# Altium integrated library Analog Devices Data Converters Digital-to-Analog Converters.IntLib: 2231 symbols (part 123 of 181)
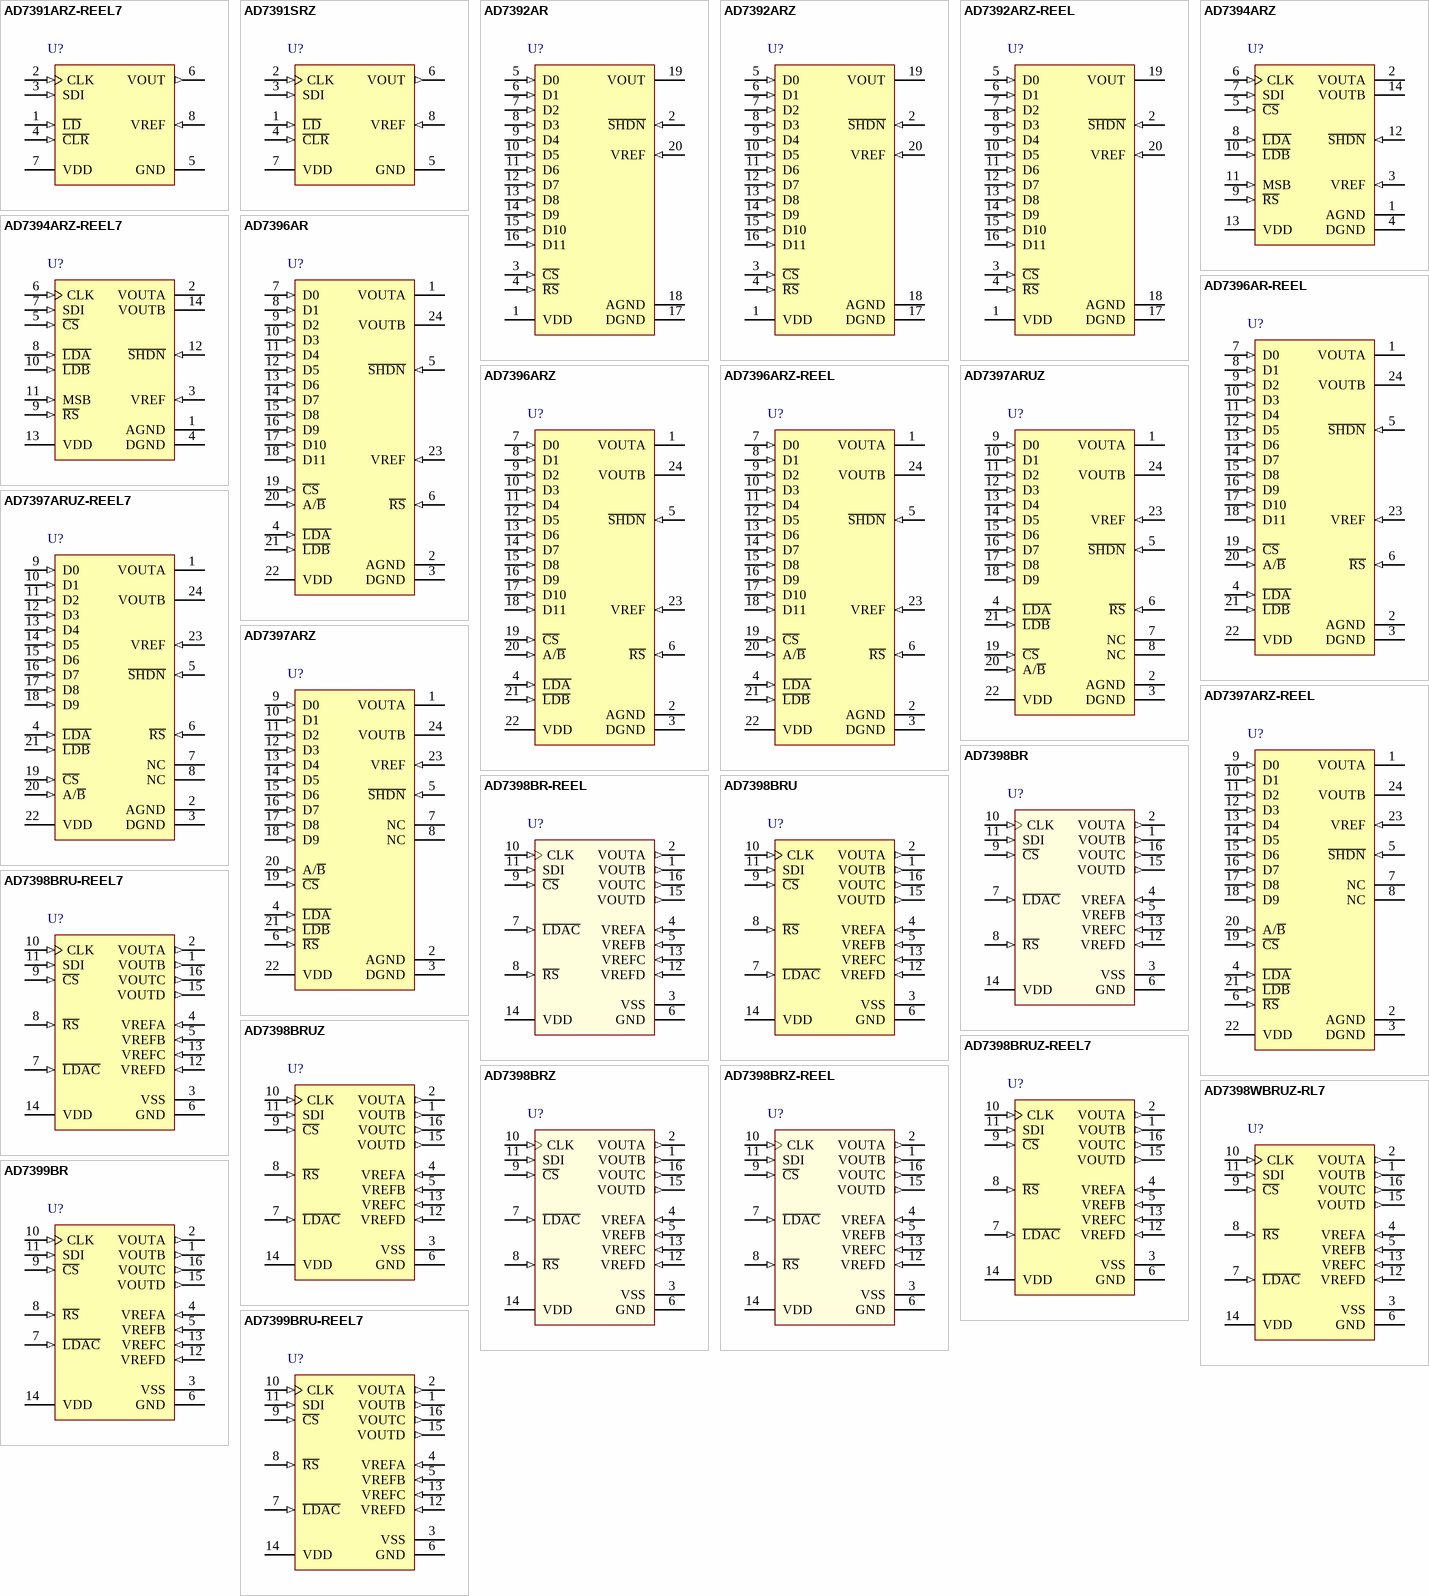
[diagram p236: symbols AD7391ARZ-REEL7 to AD7399BRU-REEL7]

## AD7396ARZ
designator U?
Dual 12-Bit Digital-to-Analog Converter with Parallel Interface, 3 V, -40 to +85 degC, RW-24, Pb-Free, Tube; Generic Part Number: AD7396; Manufacturer: Analog Devices; PartNumber: AD7396ARZ; # DAC Outputs: 2; Max V+: 5.5V; Op Pwr Diss: 1mW; Resolution (Bits): 12; Settling Time: 60µs; Single Supply: Yes; DatasheetVersion: Rev.0; PackageVersion: 060706-A; PackageReference: RW-24; PackageDescription: 24-Lead Standard Small Outline Package [SOIC_W]; Supplier 1: Digi-Key; Supplier Part Number 1: AD7396ARZ-ND; Supplier 2: Newark; Supplier Part Number 2: 59K4769; Supplier 3: Mouser; Supplier Part Number 3: 584-AD7396ARZ; Packing: Tube; RoHS: Y; Mounting Technology: Surface Mount; Code_JEDEC: MS-013-AD; ComponentLink1Description: Manufacturer URL; ComponentLink1URL: http://www.analog.com/en/index.html; ComponentLink2Description: Datasheet; ComponentLink2URL: http://www.analog.com/static/imported-files/data_sheets/AD7396_7397.pdf; ComponentLink3Description: Package Specification; ComponentLink3URL: http://www.analog.com/static/imported-files/packages/33665150946139RW_24.pdf; ComponentLink4Description: Product URL; ComponentLink4URL: http://www.analog.com/en/digital-to-analog-converters/da-converters/ad7396/products/product.html
footprint RW-24_N (SOIC, 24-Leads, Body 15.4x7.5mm, Pitch 1.27mm, IPC Medium Density)
footprint RW-24_L (SOIC, 24-Leads, Body 15.4x7.5mm, Pitch 1.27mm, IPC High Density)
footprint RW-24_M (SOIC, 24-Leads, Body 15.4x7.5mm, Pitch 1.27mm, IPC Low Density)
pins: 1 VOUTA (hiz) "DAC A Voltage Output.", 2 AGND (power) "Analog Ground.", 3 DGND (power) "Digital Ground.", 4 ~{LDA} (in) "Load DAC A Register Strobe. Transfers input register data to the DAC A register. Active low inputs, Level sensitive latch. May be connected together with L\D\B\ to double-buffer load both DAC register simulataneously.", 5 ~{SHDN} (in) "Power Shutdown Active Low Input. DAC register contents are saved as long as power stays on the VDD pin.", 6 ~{RS} (in) "Resets Input and DAC Register to Zero Condition. Asynchronous active low input.", 7 D0 (in) "Twelve Parallel Input Data Bit. D0 = LSB Pin 7, AD7396.", 8 D1 (in) "Twelve Parallel Input Data Bit.", 9 D2 (in) "Twelve Parallel Input Data Bit.", 10 D3 (in) "Twelve Parallel Input Data Bit.", 11 D4 (in) "Twelve Parallel Input Data Bit.", 12 D5 (in) "Twelve Parallel Input Data Bit.", 13 D6 (in) "Twelve Parallel Input Data Bit.", 14 D7 (in) "Twelve Parallel Input Data Bit.", 15 D8 (in) "Twelve Parallel Input Data Bit.", 16 D9 (in) "Twelve Parallel Input Data Bit.", 17 D10 (in) "Twelve Parallel Input Data Bit.", 18 D11 (in) "Twelve Parallel Input Data Bit. D11 = MSB Pin 18, AD7396.", 19 ~{CS} (in) "Chip Select Latch Enable, Active Low.", 20 A/~{B} (in) "DAC Input Register Address Select DACA = 1 or DACB = 0.", 21 ~{LDB} (in) "Load DAC B Register Strobe. Transfers input register data to the DAC B register. Active low inputs, Level sensitive latch. May be connected together with L\D\A\ to double-buffer load both DAC registers simultaneously.", 22 VDD (power) "Positive Power Supply Input. Specified range of operation +2.7 V to +5.5 V.", 23 VREF (in) "DAC Reference Input Pin. Establishes DAC full-scale voltage.", 24 VOUTB (hiz) "DAC B Voltage Output."

## AD7396ARZ-REEL
designator U?
Dual 12-Bit Digital-to-Analog Converter with Parallel Interface, 3 V, -40 to +85 degC, RW-24, Pb-Free, Reel; Generic Part Number: AD7396; Manufacturer: Analog Devices; PartNumber: AD7396ARZ-REEL; # DAC Outputs: 2; Max V+: 5.5V; Op Pwr Diss: 1mW; Resolution (Bits): 12; Settling Time: 60µs; Single Supply: Yes; DatasheetVersion: Rev.0; PackageVersion: 060706-A; PackageReference: RW-24; PackageDescription: 24-Lead Standard Small Outline Package [SOIC_W]; Supplier 1: Digi-Key; Supplier Part Number 1: AD7396ARZ-REEL-ND; Supplier 2: Mouser; Supplier Part Number 2: 584-AD7396ARZ-R; Packing: Reel; RoHS: Y; Mounting Technology: Surface Mount; Code_JEDEC: MS-013-AD; ComponentLink1Description: Manufacturer URL; ComponentLink1URL: http://www.analog.com/en/index.html; ComponentLink2Description: Datasheet; ComponentLink2URL: http://www.analog.com/static/imported-files/data_sheets/AD7396_7397.pdf; ComponentLink3Description: Package Specification; ComponentLink3URL: http://www.analog.com/static/imported-files/packages/33665150946139RW_24.pdf; ComponentLink4Description: Product URL; ComponentLink4URL: http://www.analog.com/en/digital-to-analog-converters/da-converters/ad7396/products/product.html
footprint RW-24_N (SOIC, 24-Leads, Body 15.4x7.5mm, Pitch 1.27mm, IPC Medium Density)
footprint RW-24_L (SOIC, 24-Leads, Body 15.4x7.5mm, Pitch 1.27mm, IPC High Density)
footprint RW-24_M (SOIC, 24-Leads, Body 15.4x7.5mm, Pitch 1.27mm, IPC Low Density)
pins: 1 VOUTA (hiz) "DAC A Voltage Output.", 2 AGND (power) "Analog Ground.", 3 DGND (power) "Digital Ground.", 4 ~{LDA} (in) "Load DAC A Register Strobe. Transfers input register data to the DAC A register. Active low inputs, Level sensitive latch. May be connected together with L\D\B\ to double-buffer load both DAC register simulataneously.", 5 ~{SHDN} (in) "Power Shutdown Active Low Input. DAC register contents are saved as long as power stays on the VDD pin.", 6 ~{RS} (in) "Resets Input and DAC Register to Zero Condition. Asynchronous active low input.", 7 D0 (in) "Twelve Parallel Input Data Bit. D0 = LSB Pin 7, AD7396.", 8 D1 (in) "Twelve Parallel Input Data Bit.", 9 D2 (in) "Twelve Parallel Input Data Bit.", 10 D3 (in) "Twelve Parallel Input Data Bit.", 11 D4 (in) "Twelve Parallel Input Data Bit.", 12 D5 (in) "Twelve Parallel Input Data Bit.", 13 D6 (in) "Twelve Parallel Input Data Bit.", 14 D7 (in) "Twelve Parallel Input Data Bit.", 15 D8 (in) "Twelve Parallel Input Data Bit.", 16 D9 (in) "Twelve Parallel Input Data Bit.", 17 D10 (in) "Twelve Parallel Input Data Bit.", 18 D11 (in) "Twelve Parallel Input Data Bit. D11 = MSB Pin 18, AD7396.", 19 ~{CS} (in) "Chip Select Latch Enable, Active Low.", 20 A/~{B} (in) "DAC Input Register Address Select DACA = 1 or DACB = 0.", 21 ~{LDB} (in) "Load DAC B Register Strobe. Transfers input register data to the DAC B register. Active low inputs, Level sensitive latch. May be connected together with L\D\A\ to double-buffer load both DAC registers simultaneously.", 22 VDD (power) "Positive Power Supply Input. Specified range of operation +2.7 V to +5.5 V.", 23 VREF (in) "DAC Reference Input Pin. Establishes DAC full-scale voltage.", 24 VOUTB (hiz) "DAC B Voltage Output."

## AD7397ARUZ
designator U?
Dual 10-Bit Digital-to-Analog Converter with Parallel Interface, 3 V, -40 to +85 degC, RU-24, Pb-Free, Tube; Generic Part Number: AD7397; Manufacturer: Analog Devices; PartNumber: AD7397ARUZ; # DAC Outputs: 2; Max V+: 5.5V; Op Pwr Diss: 1mW; Resolution (Bits): 10; Settling Time: 60µs; Single Supply: Yes; DatasheetVersion: Rev.0; PackageVersion: 2002; PackageReference: RU-24; PackageDescription: 24-Lead Thin Shrink Small Outline Package [TSSOP]; Supplier 1: Digi-Key; Supplier Part Number 1: AD7397ARUZ-ND; Supplier 2: Mouser; Supplier Part Number 2: 584-AD7397ARUZ; Packing: Tube; RoHS: Y; Mounting Technology: Surface Mount; Code_JEDEC: MO-153-AD; ComponentLink1Description: Manufacturer URL; ComponentLink1URL: http://www.analog.com/en/index.html; ComponentLink2Description: Datasheet; ComponentLink2URL: http://www.analog.com/static/imported-files/data_sheets/AD7396_7397.pdf; ComponentLink3Description: Package Specification; ComponentLink3URL: http://www.analog.com/static/imported-files/packages/380523655245964505593671154107510036154RU24.pdf; ComponentLink4Description: Product URL; ComponentLink4URL: http://www.analog.com/en/digital-to-analog-converters/da-converters/ad7397/products/product.html
footprint RU-24_N (TSOP, 24-Leads, Body 7.8x4.4mm, Pitch 0.65mm, IPC Medium Density)
footprint RU-24_L (TSOP, 24-Leads, Body 7.8x4.4mm, Pitch 0.65mm, IPC High Density)
footprint RU-24_M (TSOP, 24-Leads, Body 7.8x4.4mm, Pitch 0.65mm, IPC Low Density)
pins: 1 VOUTA (hiz) "DAC A Voltage Output.", 2 AGND (power) "Analog Ground.", 3 DGND (power) "Digital Ground.", 4 ~{LDA} (in) "Load DAC A Register Strobe. Transfers input register data to the DAC A register. Active low inputs, Level sensitive latch. May be connected together with L\D\B\ to double-buffer load both DAC registers simultaneously.", 5 ~{SHDN} (in) "Power Shutdown Active Low Input. DAC register contents are saved as long as power stays on the VDD pin.", 6 ~{RS} (in) "Resets Input and DAC Register to Zero Condition. Asynchronous active low input.", 7 NC "No Connect", 8 NC "No Connect", 9 D0 (in) "Ten Parallel Input Data Bits.D0 = LSB", 10 D1 (in) "Ten Parallel Input Data Bits.", 11 D2 (in) "Ten Parallel Input Data Bits.", 12 D3 (in) "Ten Parallel Input Data Bits.", 13 D4 (in) "Ten Parallel Input Data Bits.", 14 D5 (in) "Ten Parallel Input Data Bits.", 15 D6 (in) "Ten Parallel Input Data Bits.", 16 D7 (in) "Ten Parallel Input Data Bits.", 17 D8 (in) "Ten Parallel Input Data Bits.", 18 D9 (in) "Ten Parallel Input Data Bits.D9 = MSB", 19 ~{CS} (in) "Chip Select Latch Enable, Active Low.", 20 A/~{B} (in) "DAC Input Register Address Select DACA = 1 or DACB = 0.", 21 ~{LDB} (in) "Load DAC B Register Strobe. Transfers input register data to the DAC B register. Active low inputs, Level sensitive latch. May be connected together with L\D\A\ to double-buffer load both DAC registers simultaneously.", 22 VDD (power) "Positive Power Supply Input. Specified range of operation +2.7 V to +5.5 V.", 23 VREF (in) "DAC Reference Input Pin. Establishes DAC full-scale voltage.", 24 VOUTB (hiz) "DAC B Voltage Output."

## AD7397ARUZ-REEL7
designator U?
Dual 10-Bit Digital-to-Analog Converter with Parallel Interface, 3 V, -40 to +85 degC, RU-24, Pb-Free, Reel; Generic Part Number: AD7397; Manufacturer: Analog Devices; PartNumber: AD7397ARUZ-REEL7; # DAC Outputs: 2; Max V+: 5.5V; Op Pwr Diss: 1mW; Resolution (Bits): 10; Settling Time: 60µs; Single Supply: Yes; DatasheetVersion: Rev.0; PackageVersion: 2002; PackageReference: RU-24; PackageDescription: 24-Lead Thin Shrink Small Outline Package [TSSOP]; Supplier 1: Digi-Key; Supplier Part Number 1: AD7397ARUZ-REEL7-ND; Supplier 2: Mouser; Supplier Part Number 2: 584-AD7397ARUZ-R7; Packing: Reel; RoHS: Y; Mounting Technology: Surface Mount; Code_JEDEC: MO-153-AD; ComponentLink1Description: Manufacturer URL; ComponentLink1URL: http://www.analog.com/en/index.html; ComponentLink2Description: Datasheet; ComponentLink2URL: http://www.analog.com/static/imported-files/data_sheets/AD7396_7397.pdf; ComponentLink3Description: Package Specification; ComponentLink3URL: http://www.analog.com/static/imported-files/packages/380523655245964505593671154107510036154RU24.pdf; ComponentLink4Description: Product URL; ComponentLink4URL: http://www.analog.com/en/digital-to-analog-converters/da-converters/ad7397/products/product.html
footprint RU-24_N (TSOP, 24-Leads, Body 7.8x4.4mm, Pitch 0.65mm, IPC Medium Density)
footprint RU-24_L (TSOP, 24-Leads, Body 7.8x4.4mm, Pitch 0.65mm, IPC High Density)
footprint RU-24_M (TSOP, 24-Leads, Body 7.8x4.4mm, Pitch 0.65mm, IPC Low Density)
pins: 1 VOUTA (hiz) "DAC A Voltage Output.", 2 AGND (power) "Analog Ground.", 3 DGND (power) "Digital Ground.", 4 ~{LDA} (in) "Load DAC A Register Strobe. Transfers input register data to the DAC A register. Active low inputs, Level sensitive latch. May be connected together with L\D\B\ to double-buffer load both DAC registers simultaneously.", 5 ~{SHDN} (in) "Power Shutdown Active Low Input. DAC register contents are saved as long as power stays on the VDD pin.", 6 ~{RS} (in) "Resets Input and DAC Register to Zero Condition. Asynchronous active low input.", 7 NC "No Connect", 8 NC "No Connect", 9 D0 (in) "Ten Parallel Input Data Bits.D0 = LSB", 10 D1 (in) "Ten Parallel Input Data Bits.", 11 D2 (in) "Ten Parallel Input Data Bits.", 12 D3 (in) "Ten Parallel Input Data Bits.", 13 D4 (in) "Ten Parallel Input Data Bits.", 14 D5 (in) "Ten Parallel Input Data Bits.", 15 D6 (in) "Ten Parallel Input Data Bits.", 16 D7 (in) "Ten Parallel Input Data Bits.", 17 D8 (in) "Ten Parallel Input Data Bits.", 18 D9 (in) "Ten Parallel Input Data Bits.D9 = MSB", 19 ~{CS} (in) "Chip Select Latch Enable, Active Low.", 20 A/~{B} (in) "DAC Input Register Address Select DACA = 1 or DACB = 0.", 21 ~{LDB} (in) "Load DAC B Register Strobe. Transfers input register data to the DAC B register. Active low inputs, Level sensitive latch. May be connected together with L\D\A\ to double-buffer load both DAC registers simultaneously.", 22 VDD (power) "Positive Power Supply Input. Specified range of operation +2.7 V to +5.5 V.", 23 VREF (in) "DAC Reference Input Pin. Establishes DAC full-scale voltage.", 24 VOUTB (hiz) "DAC B Voltage Output."

## AD7397ARZ
designator U?
Dual 10-Bit Digital-to-Analog Converter with Parallel Interface, 3 V, -40 to +125 degC, RW-24, Pb-Free, Tube; Generic Part Number: AD7397; Manufacturer: Analog Devices; PartNumber: AD7397ARZ; # DAC Outputs: 2; Max V+: 5.5V; Op Pwr Diss: 1mW; Resolution (Bits): 10; Settling Time: 60µs; Single Supply: Yes; DatasheetVersion: Rev.0; PackageVersion: 060706-A; PackageReference: RW-24; PackageDescription: 24-Lead Standard Small Outline Package [SOIC_W]; Supplier 1: Digi-Key; Supplier Part Number 1: AD7397ARZ-ND; Supplier 2: Newark; Supplier Part Number 2: 59K4773; Supplier 3: Mouser; Supplier Part Number 3: 584-AD7397ARZ; Packing: Tube; RoHS: Y; Mounting Technology: Surface Mount; Code_JEDEC: MS-013-AD; ComponentLink1Description: Manufacturer URL; ComponentLink1URL: http://www.analog.com/en/index.html; ComponentLink2Description: Datasheet; ComponentLink2URL: http://www.analog.com/static/imported-files/data_sheets/AD7396_7397.pdf; ComponentLink3Description: Package Specification; ComponentLink3URL: http://www.analog.com/static/imported-files/packages/33665150946139RW_24.pdf; ComponentLink4Description: Product URL; ComponentLink4URL: http://www.analog.com/en/digital-to-analog-converters/da-converters/ad7397/products/product.html
footprint RW-24_N (SOIC, 24-Leads, Body 15.4x7.5mm, Pitch 1.27mm, IPC Medium Density)
footprint RW-24_L (SOIC, 24-Leads, Body 15.4x7.5mm, Pitch 1.27mm, IPC High Density)
footprint RW-24_M (SOIC, 24-Leads, Body 15.4x7.5mm, Pitch 1.27mm, IPC Low Density)
pins: 1 VOUTA (hiz) "DAC A Voltage Output.", 2 AGND (power) "Analog Ground.", 3 DGND (power) "Digital Ground.", 4 ~{LDA} (in) "Load DAC A Register Strobe. Transfers input register data to the DAC A register. Active low inputs, Level sensitive latch. May be connected together with L\D\B\ to double-buffer load both DAC registers simultaneously.", 5 ~{SHDN} (in) "Power Shutdown Active Low Input. DAC register contents are saved as long as power stays on the VDD pin.", 6 ~{RS} (in) "Resets Input and DAC Register to Zero Condition. Asynchronous active low input.", 7 NC "No Connect", 8 NC "No Connect", 9 D0 (in) "Parallel Input Data Bit,D0 = LSB Pin 9", 10 D1 (in) "Parallel Input Data Bit", 11 D2 (in) "Parallel Input Data Bit", 12 D3 (in) "Parallel Input Data Bit", 13 D4 (in) "Parallel Input Data Bit", 14 D5 (in) "Parallel Input Data Bit", 15 D6 (in) "Parallel Input Data Bit", 16 D7 (in) "Parallel Input Data Bit", 17 D8 (in) "Parallel Input Data Bit", 18 D9 (in) "Parallel Input Data Bit,D9 = MSB Pin 18", 19 ~{CS} (in) "Chip Select Latch Enable, Active Low.", 20 A/~{B} (in) "DAC Input Register Address Select DACA = 1 or DACB = 0.", 21 ~{LDB} (in) "Load DAC B Register Strobe. Transfers input register data to the DAC B register. Active low inputs, Level sensitive latch. May be connected together with L\D\A\ to double-buffer load both DAC registers simultaneously.", 22 VDD (power) "Positive Power Supply Input. Specified range of operation +2.7 V to +5.5 V.", 23 VREF (in) "DAC Reference Input Pin. Establishes DAC full-scale voltage.", 24 VOUTB (hiz) "DAC B Voltage Output."

## AD7397ARZ-REEL
designator U?
Dual 10-Bit Digital-to-Analog Converter with Parallel Interface, 3 V, -40 to +125 degC, RW-24, Pb-Free, Reel; Generic Part Number: AD7397; Manufacturer: Analog Devices; PartNumber: AD7397ARZ-REEL; # DAC Outputs: 2; Max V+: 5.5V; Op Pwr Diss: 1mW; Resolution (Bits): 10; Settling Time: 60µs; Single Supply: Yes; DatasheetVersion: Rev.0; PackageVersion: 060706-A; PackageReference: RW-24; PackageDescription: 24-Lead Standard Small Outline Package [SOIC_W]; Supplier 1: Digi-Key; Supplier Part Number 1: AD7397ARZ-REEL-ND; Supplier 2: Mouser; Supplier Part Number 2: 584-AD7397ARZ-R; Packing: Reel; RoHS: Y; Mounting Technology: Surface Mount; Code_JEDEC: MS-013-AD; ComponentLink1Description: Manufacturer URL; ComponentLink1URL: http://www.analog.com/en/index.html; ComponentLink2Description: Datasheet; ComponentLink2URL: http://www.analog.com/static/imported-files/data_sheets/AD7396_7397.pdf; ComponentLink3Description: Package Specification; ComponentLink3URL: http://www.analog.com/static/imported-files/packages/33665150946139RW_24.pdf; ComponentLink4Description: Product URL; ComponentLink4URL: http://www.analog.com/en/digital-to-analog-converters/da-converters/ad7397/products/product.html
footprint RW-24_N (SOIC, 24-Leads, Body 15.4x7.5mm, Pitch 1.27mm, IPC Medium Density)
footprint RW-24_L (SOIC, 24-Leads, Body 15.4x7.5mm, Pitch 1.27mm, IPC High Density)
footprint RW-24_M (SOIC, 24-Leads, Body 15.4x7.5mm, Pitch 1.27mm, IPC Low Density)
pins: 1 VOUTA (hiz) "DAC A Voltage Output.", 2 AGND (power) "Analog Ground.", 3 DGND (power) "Digital Ground.", 4 ~{LDA} (in) "Load DAC A Register Strobe. Transfers input register data to the DAC A register. Active low inputs, Level sensitive latch. May be connected together with L\D\B\ to double-buffer load both DAC registers simultaneously.", 5 ~{SHDN} (in) "Power Shutdown Active Low Input. DAC register contents are saved as long as power stays on the VDD pin.", 6 ~{RS} (in) "Resets Input and DAC Register to Zero Condition. Asynchronous active low input.", 7 NC "No Connect", 8 NC "No Connect", 9 D0 (in) "Parallel Input Data Bit,D0 = LSB Pin 9", 10 D1 (in) "Parallel Input Data Bit", 11 D2 (in) "Parallel Input Data Bit", 12 D3 (in) "Parallel Input Data Bit", 13 D4 (in) "Parallel Input Data Bit", 14 D5 (in) "Parallel Input Data Bit", 15 D6 (in) "Parallel Input Data Bit", 16 D7 (in) "Parallel Input Data Bit", 17 D8 (in) "Parallel Input Data Bit", 18 D9 (in) "Parallel Input Data Bit,D9 = MSB Pin 18", 19 ~{CS} (in) "Chip Select Latch Enable, Active Low.", 20 A/~{B} (in) "DAC Input Register Address Select DACA = 1 or DACB = 0.", 21 ~{LDB} (in) "Load DAC B Register Strobe. Transfers input register data to the DAC B register. Active low inputs, Level sensitive latch. May be connected together with L\D\A\ to double-buffer load both DAC registers simultaneously.", 22 VDD (power) "Positive Power Supply Input. Specified range of operation +2.7 V to +5.5 V.", 23 VREF (in) "DAC Reference Input Pin. Establishes DAC full-scale voltage.", 24 VOUTB (hiz) "DAC B Voltage Output."

## AD7398BR
designator U?
Quad 12-Bit Digital-to-Analog Converter with Serial Interface, -40 to +125 degC, RW-16, Tube; Generic Part Number: AD7398; Manufacturer: Analog Devices; PartNumber: AD7398BR; # DAC Outputs: 4; Max V+: 5.5V; Op Pwr Diss: 27mW; Resolution (Bits): 12; Settling Time: 6µs; Single Supply: Yes; DatasheetVersion: Rev.C; PackageVersion: 032707-B; PackageReference: RW-16; PackageDescription: 16-Lead Standard Small Outline Package [SOIC_W]; Supplier 1: Digi-Key; Supplier Part Number 1: AD7398BR-ND; Supplier 2: Mouser; Supplier Part Number 2: 584-AD7398BR; Packing: Tube; RoHS: N; Mounting Technology: Surface Mount; Code_JEDEC: MS-013-AA; Code_IPC: SOIC127P1030-16; ComponentLink1Description: Manufacturer URL; ComponentLink1URL: http://www.analog.com/en/index.html; ComponentLink2Description: Datasheet; ComponentLink2URL: http://www.analog.com/static/imported-files/data_sheets/AD7398_7399.pdf; ComponentLink3Description: Package Specification; ComponentLink3URL: http://www.analog.com/static/imported-files/packages/PKG_PDF/SOIC_WIDE%20%28RW%29/RW_16.pdf; ComponentLink4Description: Product URL; ComponentLink4URL: http://www.analog.com/en/digital-to-analog-converters/da-converters/ad7398/products/product.html
footprint RW-16_N (SOIC, 16-Leads, Body 10.3x7.5mm, Pitch 1.27mm, IPC Medium Density)
footprint RW-16_L (SOIC, 16-Leads, Body 10.3x7.5mm, Pitch 1.27mm, IPC High Density)
footprint RW-16_M (SOIC, 16-Leads, Body 10.3x7.5mm, Pitch 1.27mm, IPC Low Density)
pins: 1 VOUTB (out) "DAC B Voltage Output.", 2 VOUTA (out) "DAC A Voltage Output.", 3 VSS (power) "Negative Power Supply Input. Specified range of operation 0 V to -5.5 V.", 4 VREFA (in) "DAC A Reference Voltage Input Terminal. Establishes DAC A full-scale output voltage. Pin can be tied to VDD pin or VSS pin.", 5 VREFB (in) "DAC B Reference Voltage Input Terminal. Establishes DAC B full-scale output voltage. Pin can be tied to VDD pin or VSS pin.", 6 GND (power) "Ground Pin.", 7 ~{LDAC} (in) "Load DAC Register Strobe. Level sensitive active low. Transfers all input register data to DAC registers.Asynchronous active low input. See Table 5 for operation.", 8 ~{RS} (in) "Resets Input and DAC Registers to All Zero Codes. Shift register contents unchanged.", 9 ~{CS} (in) "Chip Select. Active low input. Disables shift register loading when high. Transfers serial register data to the input register when C\S\ returns high. Does not effect L\D\A\C\ operation.", 10 CLK (in) "Schmitt Triggered Clock Input. Positive edge clocks data into shift register.", 11 SDI (in) "Serial Data Input. Input data loads directly into the shift register.", 12 VREFD (in) "DAC D Reference Voltage Input Terminal. Establishes DAC D full-scale output voltage. Pin can be tied to VDD pin or VSS pin.", 13 VREFC (in) "DAC C Reference Voltage Input Terminal. Establishes DAC C full-scale output voltage. Pin can be tied to VDD pin or VSS pin.", 14 VDD (power) "Positive Power Supply Input. Specified range of operation 3 V to 5 V +/- 10%.", 15 VOUTD (out) "DAC D Voltage Output.", 16 VOUTC (out) "DAC C Voltage Output."

## AD7398BR-REEL
designator U?
Quad 12-Bit Digital-to-Analog Converter with Serial Interface, -40 to +125 degC, RW-16, Reel; Generic Part Number: AD7398; Manufacturer: Analog Devices; PartNumber: AD7398BR-REEL; # DAC Outputs: 4; Max V+: 5.5V; Op Pwr Diss: 27mW; Resolution (Bits): 12; Settling Time: 6µs; Single Supply: Yes; DatasheetVersion: Rev.C; PackageVersion: 032707-B; PackageReference: RW-16; PackageDescription: 16-Lead Standard Small Outline Package [SOIC_W]; Supplier 1: Digi-Key; Supplier Part Number 1: AD7398BR-REEL-ND; Supplier 2: Mouser; Supplier Part Number 2: 584-AD7398BR-R; Packing: Reel; RoHS: N; Mounting Technology: Surface Mount; Code_JEDEC: MS-013-AA; Code_IPC: SOIC127P1030-16; ComponentLink1Description: Manufacturer URL; ComponentLink1URL: http://www.analog.com/en/index.html; ComponentLink2Description: Datasheet; ComponentLink2URL: http://www.analog.com/static/imported-files/data_sheets/AD7398_7399.pdf; ComponentLink3Description: Package Specification; ComponentLink3URL: http://www.analog.com/static/imported-files/packages/PKG_PDF/SOIC_WIDE%20%28RW%29/RW_16.pdf; ComponentLink4Description: Product URL; ComponentLink4URL: http://www.analog.com/en/digital-to-analog-converters/da-converters/ad7398/products/product.html
footprint RW-16_N (SOIC, 16-Leads, Body 10.3x7.5mm, Pitch 1.27mm, IPC Medium Density)
footprint RW-16_L (SOIC, 16-Leads, Body 10.3x7.5mm, Pitch 1.27mm, IPC High Density)
footprint RW-16_M (SOIC, 16-Leads, Body 10.3x7.5mm, Pitch 1.27mm, IPC Low Density)
pins: 1 VOUTB (out) "DAC B Voltage Output.", 2 VOUTA (out) "DAC A Voltage Output.", 3 VSS (power) "Negative Power Supply Input. Specified range of operation 0 V to -5.5 V.", 4 VREFA (in) "DAC A Reference Voltage Input Terminal. Establishes DAC A full-scale output voltage. Pin can be tied to VDD pin or VSS pin.", 5 VREFB (in) "DAC B Reference Voltage Input Terminal. Establishes DAC B full-scale output voltage. Pin can be tied to VDD pin or VSS pin.", 6 GND (power) "Ground Pin.", 7 ~{LDAC} (in) "Load DAC Register Strobe. Level sensitive active low. Transfers all input register data to DAC registers.Asynchronous active low input. See Table 5 for operation.", 8 ~{RS} (in) "Resets Input and DAC Registers to All Zero Codes. Shift register contents unchanged.", 9 ~{CS} (in) "Chip Select. Active low input. Disables shift register loading when high. Transfers serial register data to the input register when C\S\ returns high. Does not effect L\D\A\C\ operation.", 10 CLK (in) "Schmitt Triggered Clock Input. Positive edge clocks data into shift register.", 11 SDI (in) "Serial Data Input. Input data loads directly into the shift register.", 12 VREFD (in) "DAC D Reference Voltage Input Terminal. Establishes DAC D full-scale output voltage. Pin can be tied to VDD pin or VSS pin.", 13 VREFC (in) "DAC C Reference Voltage Input Terminal. Establishes DAC C full-scale output voltage. Pin can be tied to VDD pin or VSS pin.", 14 VDD (power) "Positive Power Supply Input. Specified range of operation 3 V to 5 V +/- 10%.", 15 VOUTD (out) "DAC D Voltage Output.", 16 VOUTC (out) "DAC C Voltage Output."

## AD7398BRU
designator U?
Quad 12-Bit Digital-to-Analog Converter with Serial Interface, -40 to +125 degC, RU-16, Tube; Generic Part Number: AD7398; Manufacturer: Analog Devices; PartNumber: AD7398BRU; # DAC Outputs: 4; Max V+: 5.5V; Op Pwr Diss: 27mW; Resolution (Bits): 12; Settling Time: 6µs; Single Supply: Yes; DatasheetVersion: Rev.C; PackageVersion: Nov-2002; PackageReference: RU-16; PackageDescription: 16-Lead Thin Shrink Small Outline Package [TSSOP]; Supplier 1: Digi-Key; Supplier Part Number 1: AD7398BRU-ND; Supplier 2: Mouser; Supplier Part Number 2: 584-AD7398BRU; Packing: Tube; RoHS: N; Mounting Technology: Surface Mount; Code_JEDEC: MO-153-AB; ComponentLink1Description: Manufacturer URL; ComponentLink1URL: http://www.analog.com/en/index.html; ComponentLink2Description: Datasheet; ComponentLink2URL: http://www.analog.com/static/imported-files/data_sheets/AD7398_7399.pdf; ComponentLink3Description: Package Specification; ComponentLink3URL: http://www.analog.com/static/imported-files/packages/36244347913743854010197452789RU16.pdf; ComponentLink4Description: Product URL; ComponentLink4URL: http://www.analog.com/en/digital-to-analog-converters/da-converters/ad7398/products/product.html
footprint RU-16_N (TSOP, 16-Leads, Body 5x4.4mm, Pitch 0.65mm, IPC Medium Density)
footprint RU-16_L (TSOP, 16-Leads, Body 5x4.4mm, Pitch 0.65mm, IPC High Density)
footprint RU-16_M (TSOP, 16-Leads, Body 5x4.4mm, Pitch 0.65mm, IPC Low Density)
pins: 1 VOUTB (out) "DAC B Voltage Output.", 2 VOUTA (out) "DAC A Voltage Output.", 3 VSS (power) "Negative Power Supply Input. Specified range of operation 0 V to -5.5 V.", 4 VREFA (in) "DAC A Reference Voltage Input Terminal. Establishes DAC A full-scale output voltage. Pin can be tied to VDD pin or VSS pin.", 5 VREFB (in) "DAC B Reference Voltage Input Terminal. Establishes DAC B full-scale output voltage. Pin can be tied to VDD pin or VSS pin.", 6 GND (power) "Ground Pin.", 7 ~{LDAC} (in) "Load DAC Register Strobe. Level sensitive active low. Transfers all input register data to DAC registers.Asynchronous active low input. See Table 5 for operation.", 8 ~{RS} (in) "Resets Input and DAC Registers to All Zero Codes. Shift register contents unchanged.", 9 ~{CS} (in) "Chip Select. Active low input. Disables shift register loading when high. Transfers serial register data to the input register when C\S\ returns high. Does not effect L\D\A\C\ operation.", 10 CLK (in) "Schmitt Triggered Clock Input. Positive edge clocks data into shift register.", 11 SDI (in) "Serial Data Input. Input data loads directly into the shift register.", 12 VREFD (in) "DAC D Reference Voltage Input Terminal. Establishes DAC D full-scale output voltage. Pin can be tied to VDD pin or VSS pin.", 13 VREFC (in) "DAC C Reference Voltage Input Terminal. Establishes DAC C full-scale output voltage. Pin can be tied to VDD pin or VSS pin.", 14 VDD (power) "Positive Power Supply Input. Specified range of operation 3 V to 5 V +/- 10%.", 15 VOUTD (out) "DAC D Voltage Output.", 16 VOUTC (out) "DAC C Voltage Output."

## AD7398BRU-REEL7
designator U?
Quad 12-Bit Digital-to-Analog Converter with Serial Interface, -40 to +125 degC, RU-16, Reel; Generic Part Number: AD7398; Manufacturer: Analog Devices; PartNumber: AD7398BRU-REEL7; # DAC Outputs: 4; Max V+: 5.5V; Op Pwr Diss: 27mW; Resolution (Bits): 12; Settling Time: 6µs; Single Supply: Yes; DatasheetVersion: Rev.C; PackageVersion: Nov-2002; PackageReference: RU-16; PackageDescription: 16-Lead Thin Shrink Small Outline Package [TSSOP]; Supplier 1: Digi-Key; Supplier Part Number 1: AD7398BRU-REEL7-ND; Supplier 2: Newark; Supplier Part Number 2: 02H1583; Supplier 3: Mouser; Supplier Part Number 3: 584-AD7398BRU-R7; Packing: Reel; RoHS: N; Mounting Technology: Surface Mount; Code_JEDEC: MO-153-AB; ComponentLink1Description: Manufacturer URL; ComponentLink1URL: http://www.analog.com/en/index.html; ComponentLink2Description: Datasheet; ComponentLink2URL: http://www.analog.com/static/imported-files/data_sheets/AD7398_7399.pdf; ComponentLink3Description: Package Specification; ComponentLink3URL: http://www.analog.com/static/imported-files/packages/36244347913743854010197452789RU16.pdf; ComponentLink4Description: Product URL; ComponentLink4URL: http://www.analog.com/en/digital-to-analog-converters/da-converters/ad7398/products/product.html
footprint RU-16_N (TSOP, 16-Leads, Body 5x4.4mm, Pitch 0.65mm, IPC Medium Density)
footprint RU-16_L (TSOP, 16-Leads, Body 5x4.4mm, Pitch 0.65mm, IPC High Density)
footprint RU-16_M (TSOP, 16-Leads, Body 5x4.4mm, Pitch 0.65mm, IPC Low Density)
pins: 1 VOUTB (out) "DAC B Voltage Output.", 2 VOUTA (out) "DAC A Voltage Output.", 3 VSS (power) "Negative Power Supply Input. Specified range of operation 0 V to -5.5 V.", 4 VREFA (in) "DAC A Reference Voltage Input Terminal. Establishes DAC A full-scale output voltage. Pin can be tied to VDD pin or VSS pin.", 5 VREFB (in) "DAC B Reference Voltage Input Terminal. Establishes DAC B full-scale output voltage. Pin can be tied to VDD pin or VSS pin.", 6 GND (power) "Ground Pin.", 7 ~{LDAC} (in) "Load DAC Register Strobe. Level sensitive active low. Transfers all input register data to DAC registers.Asynchronous active low input. See Table 5 for operation.", 8 ~{RS} (in) "Resets Input and DAC Registers to All Zero Codes. Shift register contents unchanged.", 9 ~{CS} (in) "Chip Select. Active low input. Disables shift register loading when high. Transfers serial register data to the input register when C\S\ returns high. Does not effect L\D\A\C\ operation.", 10 CLK (in) "Schmitt Triggered Clock Input. Positive edge clocks data into shift register.", 11 SDI (in) "Serial Data Input. Input data loads directly into the shift register.", 12 VREFD (in) "DAC D Reference Voltage Input Terminal. Establishes DAC D full-scale output voltage. Pin can be tied to VDD pin or VSS pin.", 13 VREFC (in) "DAC C Reference Voltage Input Terminal. Establishes DAC C full-scale output voltage. Pin can be tied to VDD pin or VSS pin.", 14 VDD (power) "Positive Power Supply Input. Specified range of operation 3 V to 5 V +/- 10%.", 15 VOUTD (out) "DAC D Voltage Output.", 16 VOUTC (out) "DAC C Voltage Output."

## AD7398BRUZ
designator U?
Quad 12-Bit Digital-to-Analog Converter with Serial Interface, -40 to +125 degC, RU-16, Pb-Free, Tube; Generic Part Number: AD7398; Manufacturer: Analog Devices; PartNumber: AD7398BRUZ; # DAC Outputs: 4; Max V+: 5.5V; Op Pwr Diss: 27mW; Resolution (Bits): 12; Settling Time: 6µs; Single Supply: Yes; DatasheetVersion: Rev.C; PackageVersion: Nov-2002; PackageReference: RU-16; PackageDescription: 16-Lead Thin Shrink Small Outline Package [TSSOP]; Supplier 1: Digi-Key; Supplier Part Number 1: AD7398BRUZ-ND; Supplier 2: Farnell; Supplier Part Number 2: 2305682; Supplier 3: Newark; Supplier Part Number 3: 19M8838; Supplier 4: Mouser; Supplier Part Number 4: 584-AD7398BRUZ; Packing: Tube; RoHS: Y; Mounting Technology: Surface Mount; Code_JEDEC: MO-153-AB; ComponentLink1Description: Manufacturer URL; ComponentLink1URL: http://www.analog.com/en/index.html; ComponentLink2Description: Datasheet; ComponentLink2URL: http://www.analog.com/static/imported-files/data_sheets/AD7398_7399.pdf; ComponentLink3Description: Package Specification; ComponentLink3URL: http://www.analog.com/static/imported-files/packages/36244347913743854010197452789RU16.pdf; ComponentLink4Description: Product URL; ComponentLink4URL: http://www.analog.com/en/digital-to-analog-converters/da-converters/ad7398/products/product.html
footprint RU-16_N (TSOP, 16-Leads, Body 5x4.4mm, Pitch 0.65mm, IPC Medium Density)
footprint RU-16_L (TSOP, 16-Leads, Body 5x4.4mm, Pitch 0.65mm, IPC High Density)
footprint RU-16_M (TSOP, 16-Leads, Body 5x4.4mm, Pitch 0.65mm, IPC Low Density)
pins: 1 VOUTB (out) "DAC B Voltage Output.", 2 VOUTA (out) "DAC A Voltage Output.", 3 VSS (power) "Negative Power Supply Input. Specified range of operation 0 V to -5.5 V.", 4 VREFA (in) "DAC A Reference Voltage Input Terminal. Establishes DAC A full-scale output voltage. Pin can be tied to VDD pin or VSS pin.", 5 VREFB (in) "DAC B Reference Voltage Input Terminal. Establishes DAC B full-scale output voltage. Pin can be tied to VDD pin or VSS pin.", 6 GND (power) "Ground Pin.", 7 ~{LDAC} (in) "Load DAC Register Strobe. Level sensitive active low. Transfers all input register data to DAC registers.Asynchronous active low input. See Table 5 for operation.", 8 ~{RS} (in) "Resets Input and DAC Registers to All Zero Codes. Shift register contents unchanged.", 9 ~{CS} (in) "Chip Select. Active low input. Disables shift register loading when high. Transfers serial register data to the input register when C\S\ returns high. Does not effect L\D\A\C\ operation.", 10 CLK (in) "Schmitt Triggered Clock Input. Positive edge clocks data into shift register.", 11 SDI (in) "Serial Data Input. Input data loads directly into the shift register.", 12 VREFD (in) "DAC D Reference Voltage Input Terminal. Establishes DAC D full-scale output voltage. Pin can be tied to VDD pin or VSS pin.", 13 VREFC (in) "DAC C Reference Voltage Input Terminal. Establishes DAC C full-scale output voltage. Pin can be tied to VDD pin or VSS pin.", 14 VDD (power) "Positive Power Supply Input. Specified range of operation 3 V to 5 V +/- 10%.", 15 VOUTD (out) "DAC D Voltage Output.", 16 VOUTC (out) "DAC C Voltage Output."

## AD7398BRUZ-REEL7
designator U?
Quad 12-Bit Digital-to-Analog Converter with Serial Interface, -40 to +125 degC, RU-16, Pb-Free, Reel; Generic Part Number: AD7398; Manufacturer: Analog Devices; PartNumber: AD7398BRUZ-REEL7; # DAC Outputs: 4; Max V+: 5.5V; Op Pwr Diss: 27mW; Resolution (Bits): 12; Settling Time: 6µs; Single Supply: Yes; DatasheetVersion: Rev.C; PackageVersion: Nov-2002; PackageReference: RU-16; PackageDescription: 16-Lead Thin Shrink Small Outline Package [TSSOP]; Supplier 1: Digi-Key; Supplier Part Number 1: AD7398BRUZ-REEL7-ND; Supplier 2: Mouser; Supplier Part Number 2: 584-AD7398BRUZ-R7; Packing: Reel; RoHS: Y; Mounting Technology: Surface Mount; Code_JEDEC: MO-153-AB; ComponentLink1Description: Manufacturer URL; ComponentLink1URL: http://www.analog.com/en/index.html; ComponentLink2Description: Datasheet; ComponentLink2URL: http://www.analog.com/static/imported-files/data_sheets/AD7398_7399.pdf; ComponentLink3Description: Package Specification; ComponentLink3URL: http://www.analog.com/static/imported-files/packages/36244347913743854010197452789RU16.pdf; ComponentLink4Description: Product URL; ComponentLink4URL: http://www.analog.com/en/digital-to-analog-converters/da-converters/ad7398/products/product.html
footprint RU-16_N (TSOP, 16-Leads, Body 5x4.4mm, Pitch 0.65mm, IPC Medium Density)
footprint RU-16_L (TSOP, 16-Leads, Body 5x4.4mm, Pitch 0.65mm, IPC High Density)
footprint RU-16_M (TSOP, 16-Leads, Body 5x4.4mm, Pitch 0.65mm, IPC Low Density)
pins: 1 VOUTB (out) "DAC B Voltage Output.", 2 VOUTA (out) "DAC A Voltage Output.", 3 VSS (power) "Negative Power Supply Input. Specified range of operation 0 V to -5.5 V.", 4 VREFA (in) "DAC A Reference Voltage Input Terminal. Establishes DAC A full-scale output voltage. Pin can be tied to VDD pin or VSS pin.", 5 VREFB (in) "DAC B Reference Voltage Input Terminal. Establishes DAC B full-scale output voltage. Pin can be tied to VDD pin or VSS pin.", 6 GND (power) "Ground Pin.", 7 ~{LDAC} (in) "Load DAC Register Strobe. Level sensitive active low. Transfers all input register data to DAC registers.Asynchronous active low input. See Table 5 for operation.", 8 ~{RS} (in) "Resets Input and DAC Registers to All Zero Codes. Shift register contents unchanged.", 9 ~{CS} (in) "Chip Select. Active low input. Disables shift register loading when high. Transfers serial register data to the input register when C\S\ returns high. Does not effect L\D\A\C\ operation.", 10 CLK (in) "Schmitt Triggered Clock Input. Positive edge clocks data into shift register.", 11 SDI (in) "Serial Data Input. Input data loads directly into the shift register.", 12 VREFD (in) "DAC D Reference Voltage Input Terminal. Establishes DAC D full-scale output voltage. Pin can be tied to VDD pin or VSS pin.", 13 VREFC (in) "DAC C Reference Voltage Input Terminal. Establishes DAC C full-scale output voltage. Pin can be tied to VDD pin or VSS pin.", 14 VDD (power) "Positive Power Supply Input. Specified range of operation 3 V to 5 V +/- 10%.", 15 VOUTD (out) "DAC D Voltage Output.", 16 VOUTC (out) "DAC C Voltage Output."

## AD7398BRZ
designator U?
Quad 12-Bit Digital-to-Analog Converter with Serial Interface, -40 to +125 degC, RW-16, Pb-Free, Tube; Generic Part Number: AD7399; Manufacturer: Analog Devices; PartNumber: AD7398BRZ; # DAC Outputs: 4; Max V+: 5.5V; Op Pwr Diss: 27mW; Resolution (Bits): 12; Settling Time: 6µs; Single Supply: Yes; DatasheetVersion: Rev.C; PackageVersion: 032707-B; PackageReference: RW-16; PackageDescription: 16-Lead Standard Small Outline Package [SOIC_W]; Supplier 1: Digi-Key; Supplier Part Number 1: AD7398BRZ-ND; Supplier 2: Farnell; Supplier Part Number 2: 9604243; Supplier 3: Newark; Supplier Part Number 3: 19M0865; Supplier 4: Mouser; Supplier Part Number 4: 584-AD7398BRZ; Packing: Tube; RoHS: Y; Mounting Technology: Surface Mount; Code_JEDEC: MS-013-AA; Code_IPC: SOIC127P1030-16; ComponentLink1Description: Manufacturer URL; ComponentLink1URL: http://www.analog.com/en/index.html; ComponentLink2Description: Datasheet; ComponentLink2URL: http://www.analog.com/static/imported-files/data_sheets/AD7398_7399.pdf; ComponentLink3Description: Package Specification; ComponentLink3URL: http://www.analog.com/static/imported-files/packages/PKG_PDF/SOIC_WIDE%20%28RW%29/RW_16.pdf; ComponentLink4Description: Product URL; ComponentLink4URL: http://www.analog.com/en/digital-to-analog-converters/da-converters/ad7398/products/product.html
footprint RW-16_N (SOIC, 16-Leads, Body 10.3x7.5mm, Pitch 1.27mm, IPC Medium Density)
footprint RW-16_L (SOIC, 16-Leads, Body 10.3x7.5mm, Pitch 1.27mm, IPC High Density)
footprint RW-16_M (SOIC, 16-Leads, Body 10.3x7.5mm, Pitch 1.27mm, IPC Low Density)
pins: 1 VOUTB (out) "DAC B Voltage Output.", 2 VOUTA (out) "DAC A Voltage Output.", 3 VSS (power) "Negative Power Supply Input. Specified range of operation 0 V to -5.5 V.", 4 VREFA (in) "DAC A Reference Voltage Input Terminal. Establishes DAC A full-scale output voltage. Pin can be tied to VDD pin or VSS pin.", 5 VREFB (in) "DAC B Reference Voltage Input Terminal. Establishes DAC B full-scale output voltage. Pin can be tied to VDD pin or VSS pin.", 6 GND (power) "Ground Pin.", 7 ~{LDAC} (in) "Load DAC Register Strobe. Level sensitive active low. Transfers all input register data to DAC registers.Asynchronous active low input. See Table 5 for operation.", 8 ~{RS} (in) "Resets Input and DAC Registers to All Zero Codes. Shift register contents unchanged.", 9 ~{CS} (in) "Chip Select. Active low input. Disables shift register loading when high. Transfers serial register data to the input register when C\S\ returns high. Does not effect L\D\A\C\ operation.", 10 CLK (in) "Schmitt Triggered Clock Input. Positive edge clocks data into shift register.", 11 SDI (in) "Serial Data Input. Input data loads directly into the shift register.", 12 VREFD (in) "DAC D Reference Voltage Input Terminal. Establishes DAC D full-scale output voltage. Pin can be tied to VDD pin or VSS pin.", 13 VREFC (in) "DAC C Reference Voltage Input Terminal. Establishes DAC C full-scale output voltage. Pin can be tied to VDD pin or VSS pin.", 14 VDD (power) "Positive Power Supply Input. Specified range of operation 3 V to 5 V +/- 10%.", 15 VOUTD (out) "DAC D Voltage Output.", 16 VOUTC (out) "DAC C Voltage Output."

## AD7398BRZ-REEL
designator U?
Quad 12-Bit Digital-to-Analog Converter with Serial Interface, -40 to +125 degC, RW-16, Pb-Free, Reel; Generic Part Number: AD7398; Manufacturer: Analog Devices; PartNumber: AD7398BRZ-REEL; # DAC Outputs: 4; Max V+: 5.5V; Op Pwr Diss: 27mW; Resolution (Bits): 12; Settling Time: 6µs; Single Supply: Yes; DatasheetVersion: Rev.C; PackageVersion: 032707-B; PackageReference: RW-16; PackageDescription: 16-Lead Standard Small Outline Package [SOIC_W]; Supplier 1: Digi-Key; Supplier Part Number 1: AD7398BRZ-REEL-ND; Supplier 2: Mouser; Supplier Part Number 2: 584-AD7398BRZ-R; Packing: Reel; RoHS: Y; Mounting Technology: Surface Mount; Code_JEDEC: MS-013-AA; Code_IPC: SOIC127P1030-16; ComponentLink1Description: Manufacturer URL; ComponentLink1URL: http://www.analog.com/en/index.html; ComponentLink2Description: Datasheet; ComponentLink2URL: http://www.analog.com/static/imported-files/data_sheets/AD7398_7399.pdf; ComponentLink3Description: Package Specification; ComponentLink3URL: http://www.analog.com/static/imported-files/packages/PKG_PDF/SOIC_WIDE%20%28RW%29/RW_16.pdf; ComponentLink4Description: Product URL; ComponentLink4URL: http://www.analog.com/en/digital-to-analog-converters/da-converters/ad7398/products/product.html
footprint RW-16_N (SOIC, 16-Leads, Body 10.3x7.5mm, Pitch 1.27mm, IPC Medium Density)
footprint RW-16_L (SOIC, 16-Leads, Body 10.3x7.5mm, Pitch 1.27mm, IPC High Density)
footprint RW-16_M (SOIC, 16-Leads, Body 10.3x7.5mm, Pitch 1.27mm, IPC Low Density)
pins: 1 VOUTB (out) "DAC B Voltage Output.", 2 VOUTA (out) "DAC A Voltage Output.", 3 VSS (power) "Negative Power Supply Input. Specified range of operation 0 V to -5.5 V.", 4 VREFA (in) "DAC A Reference Voltage Input Terminal. Establishes DAC A full-scale output voltage. Pin can be tied to VDD pin or VSS pin.", 5 VREFB (in) "DAC B Reference Voltage Input Terminal. Establishes DAC B full-scale output voltage. Pin can be tied to VDD pin or VSS pin.", 6 GND (power) "Ground Pin.", 7 ~{LDAC} (in) "Load DAC Register Strobe. Level sensitive active low. Transfers all input register data to DAC registers.Asynchronous active low input. See Table 5 for operation.", 8 ~{RS} (in) "Resets Input and DAC Registers to All Zero Codes. Shift register contents unchanged.", 9 ~{CS} (in) "Chip Select. Active low input. Disables shift register loading when high. Transfers serial register data to the input register when C\S\ returns high. Does not effect L\D\A\C\ operation.", 10 CLK (in) "Schmitt Triggered Clock Input. Positive edge clocks data into shift register.", 11 SDI (in) "Serial Data Input. Input data loads directly into the shift register.", 12 VREFD (in) "DAC D Reference Voltage Input Terminal. Establishes DAC D full-scale output voltage. Pin can be tied to VDD pin or VSS pin.", 13 VREFC (in) "DAC C Reference Voltage Input Terminal. Establishes DAC C full-scale output voltage. Pin can be tied to VDD pin or VSS pin.", 14 VDD (power) "Positive Power Supply Input. Specified range of operation 3 V to 5 V +/- 10%.", 15 VOUTD (out) "DAC D Voltage Output.", 16 VOUTC (out) "DAC C Voltage Output."

## AD7398WBRUZ-RL7
designator U?
Quad 12-Bit Digital-to-Analog Converter with Serial Interface, -40 to +125 degC, RU-16, Pb-Free, Reel; Generic Part Number: AD7398; Manufacturer: Analog Devices; PartNumber: AD7398WBRUZ-RL7; # DAC Outputs: 4; Max V+: 5.5V; Op Pwr Diss: 27mW; Resolution (Bits): 12; Settling Time: 6µs; Single Supply: Yes; DatasheetVersion: Rev.C; PackageVersion: Nov-2002; PackageReference: RU-16; PackageDescription: 16-Lead Thin Shrink Small Outline Package [TSSOP]; Supplier 1: Digi-Key; Supplier Part Number 1: AD7398WBRUZ-RL7TR-ND; Supplier 2: Digi-Key; Supplier Part Number 2: AD7398WBRUZ-RL7CT-ND; Supplier 3: Digi-Key; Supplier Part Number 3: AD7398WBRUZ-RL7DKR-ND; Supplier 4: Mouser; Supplier Part Number 4: 584-AD7398WBRUZ-R7; Packing: Reel; RoHS: Y; Mounting Technology: Surface Mount; Code_JEDEC: MO-153-AB; ComponentLink1Description: Manufacturer URL; ComponentLink1URL: http://www.analog.com/en/index.html; ComponentLink2Description: Datasheet; ComponentLink2URL: http://www.analog.com/static/imported-files/data_sheets/AD7398_7399.pdf; ComponentLink3Description: Package Specification; ComponentLink3URL: http://www.analog.com/static/imported-files/packages/36244347913743854010197452789RU16.pdf; ComponentLink4Description: Product URL; ComponentLink4URL: http://www.analog.com/en/digital-to-analog-converters/da-converters/ad7398/products/product.html
footprint RU-16_N (TSOP, 16-Leads, Body 5x4.4mm, Pitch 0.65mm, IPC Medium Density)
footprint RU-16_L (TSOP, 16-Leads, Body 5x4.4mm, Pitch 0.65mm, IPC High Density)
footprint RU-16_M (TSOP, 16-Leads, Body 5x4.4mm, Pitch 0.65mm, IPC Low Density)
pins: 1 VOUTB (out) "DAC B Voltage Output.", 2 VOUTA (out) "DAC A Voltage Output.", 3 VSS (power) "Negative Power Supply Input. Specified range of operation 0 V to -5.5 V.", 4 VREFA (in) "DAC A Reference Voltage Input Terminal. Establishes DAC A full-scale output voltage. Pin can be tied to VDD pin or VSS pin.", 5 VREFB (in) "DAC B Reference Voltage Input Terminal. Establishes DAC B full-scale output voltage. Pin can be tied to VDD pin or VSS pin.", 6 GND (power) "Ground Pin.", 7 ~{LDAC} (in) "Load DAC Register Strobe. Level sensitive active low. Transfers all input register data to DAC registers.Asynchronous active low input. See Table 5 for operation.", 8 ~{RS} (in) "Resets Input and DAC Registers to All Zero Codes. Shift register contents unchanged.", 9 ~{CS} (in) "Chip Select. Active low input. Disables shift register loading when high. Transfers serial register data to the input register when C\S\ returns high. Does not effect L\D\A\C\ operation.", 10 CLK (in) "Schmitt Triggered Clock Input. Positive edge clocks data into shift register.", 11 SDI (in) "Serial Data Input. Input data loads directly into the shift register.", 12 VREFD (in) "DAC D Reference Voltage Input Terminal. Establishes DAC D full-scale output voltage. Pin can be tied to VDD pin or VSS pin.", 13 VREFC (in) "DAC C Reference Voltage Input Terminal. Establishes DAC C full-scale output voltage. Pin can be tied to VDD pin or VSS pin.", 14 VDD (power) "Positive Power Supply Input. Specified range of operation 3 V to 5 V +/- 10%.", 15 VOUTD (out) "DAC D Voltage Output.", 16 VOUTC (out) "DAC C Voltage Output."